# Altium footprint library PCB-LIB.PcbLib: 18 footprints (part 2 of 2)
Each footprint in its own frame and in the unit in brackets; x right, y up, seen from the top. Pads: shape width x height; smd on the part's side, far side on the other; paste and mask are expansions set on the pad; w line width, h text height; cw(c..) or ccw(c..) is an arc to the next point about the centre after c.
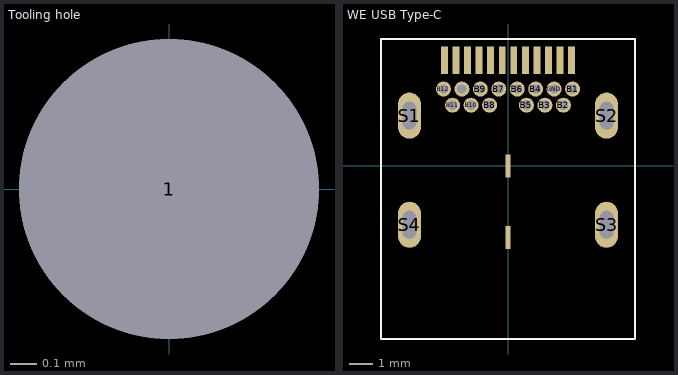
[diagram p1: the footprints below, top view; thin cyan lines are the x and y axes]

## Tooling hole [mm] "JLCPCB"
pads (1):
  round 1.152 hole 1.152 unplated paste+1.152 mask+0.148: 1(0,0)

## WE USB Type-C [mm] "Wurth Elektronik 632723300011"
pads (32):
  rect 0.3x1.2 smd: A1(-2.75,4.58) A2(-2.25,4.58) A3(-1.75,4.58) A4(-1.25,4.58) A5(-0.75,4.58) A6(-0.25,4.58) A7(0.25,4.58) A8(0.75,4.58) A9(1.25,4.58) A10(1.75,4.58) A11(2.25,4.58) A12(2.75,4.58)
  round 0.65 hole 0.4: B1(2.8,3.33) B2(2.4,2.63) B3(1.6,2.63) B4(1.2,3.33) B5(0.8,2.63) B6(0.4,3.33) B7(-0.4,3.33) B8(-0.8,2.63) B9(-1.2,3.33) B10(-1.6,2.63) B11(-2.4,2.63) B12(-2.8,3.33) GND(2,3.33) GND1(-2,3.33)
  oval 1x2 hole 0.6 slot 1.2 at 90 deg: S1(-4.27,2.18) S2(4.27,2.18) S3(4.27,-2.55) S4(-4.27,-2.55)
  rect 0.2x1 smd: S5(0,0) S6(0,-3.1)
Top Overlay:
  lines w0.1: -5.5,-7.5 5.5,-7.5 5.5,5.5 -5.5,5.5 -5.5,-7.5
3D body "632723300011.stp": height 2.97, standoff -1.89, extent -4.37,-7.05 4.37,4.776